# Altium footprint library 1932258_1.PcbLib: 1 footprints
Each footprint in its own frame and in the unit in brackets; x right, y up, seen from the top. Pads: shape width x height; smd on the part's side, far side on the other; paste and mask are expansions set on the pad; w line width, h text height; cw(c..) or ccw(c..) is an arc to the next point about the centre after c.
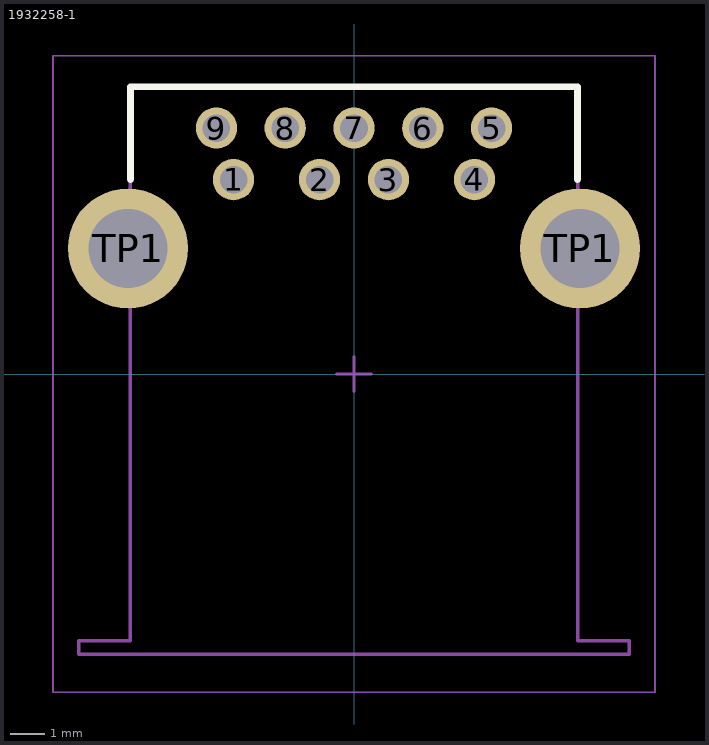
[diagram p0: the footprint, top view; thin cyan lines are the x and y axes]

## 1932258-1 [mm] "USB 3.0 Type A R/A Type"
height 6.99
pads (11):
  round 1.2 hole 0.8: 1(-3.5,5.65) 2(-1,5.65) 3(1,5.65) 4(3.5,5.65) 5(4,7.15) 6(2,7.15) 7(0,7.15) 8(-2,7.15) 9(-4,7.15)
  round 3.5 hole 2.3: TP1(-6.57,3.65) TP1(6.57,3.65)
Top Overlay:
  lines w0.2: -6.5,5.65 -6.5,8.35 6.5,8.35 6.5,5.65
Top Comment:
  text ".Comment" at 1,9.4 h1.2
Top Designator:
  text ".Designator" at -0.5,9.4 h1.2
Top Component Outline:
  lines w0.1: -8,-8.15 -8,-7.75 -6.5,-7.75 -6.5,8.35 0,8.35 6.5,8.35 6.5,-7.75 8,-7.75 8,-8.15 -8,-8.15
Top Courtyard (Mech15):
  lines w0.05: -8.75,-9.25 -8.75,9.25 8.75,9.25 8.75,-9.25 -8.75,-9.25
  lines w0.1: -0.5,0 0.5,0 ; 0,-0.5 0,0.5
3D body "c-1932258-1-b-3d.stp": height 7.77, standoff -3.68, extent -8.049,-8.15 8.046,8.33